# Altium schematic symbol library FDMC8010.SchLib: 1 symbol
Pins are listed as number, name and electrical type; pins without a type are passive.

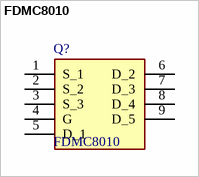
[diagram p0: symbol FDMC8010]

## FDMC8010
designator Q?
Max RDS(on) = 1.3 m at VGS = 10 V, ID = 30 A; Max RDS(on) = 1.8 m at VGS = 4.5 V, ID = 25 A; High performance technology for extremely low RDS(on); Termination is Lead-free and RoHS Compliant; Manufacturer_Name: onsemi; Geometry.Height: 0.8mm; Manufacturer_Part_Number: FDMC8010; Mouser Part Number: 512-FDMC8010; Mouser Price/Stock: https://www.mouser.co.uk/ProductDetail/onsemi-Fairchild/FDMC8010?qs=BiJXFBt7cx1GJPIblT9OBw%3D%3D; Arrow Part Number: FDMC8010; Arrow Price/Stock: https://www.arrow.com/en/products/fdmc8010/on-semiconductor?region=nac; Datasheet Link: https://www.onsemi.com/pub/Collateral/FDMC8010-D.PDF
footprint FDMC8010
pins: 1 S_1, 2 S_2, 3 S_3, 4 G, 5 D_1, 6 D_2, 7 D_3, 8 D_4, 9 D_5